# EAGLE library part RN4870 (library justinloundagin)
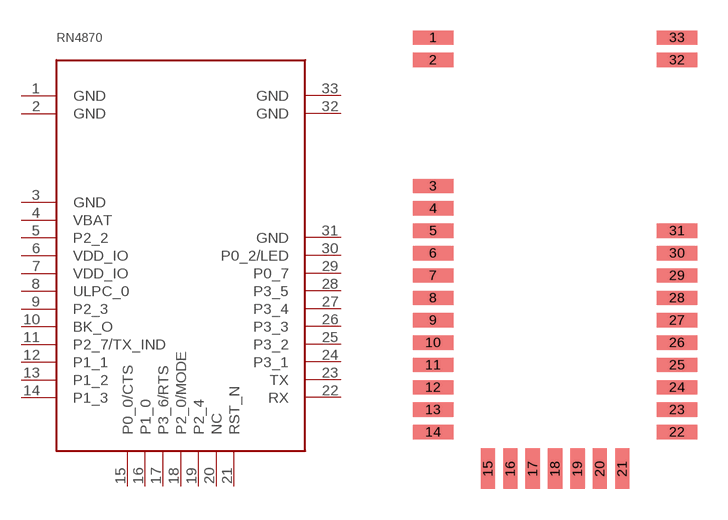
[diagram p3: symbol with the pads of RN4870; footprint RN4870]

Designator prefix -

## RN4870  [RN4870]
1  GND
2  GND
3  GND
4  VBAT
5  P2_2
6  VDD_IO
7  VDD_IO
8  ULPC_0
9  P2_3
10  BK_O
11  P2_7/TX_IND
12  P1_1
13  P1_2
14  P1_3
15  P0_0/CTS
16  P1_0
17  P3_6/RTS
18  P2_0/MODE
19  P2_4
20  NC
21  RST_N
22  RX
23  TX
24  P3_1
25  P3_2
26  P3_3
27  P3_4
28  P3_5
29  P0_7
30  P0_2/LED
31  GND
32  GND
33  GND

## Footprint RN4870 (pad centres in mm)
smd 2 x 0.7: 1 0,21.2; 2 0,20.1; 3 0,13.9; 4 0,12.8; 5 0,11.7; 6 0,10.6; 7 0,9.5; 8 0,8.4; 9 0,7.3; 10 0,6.2; 11 0,5.1; 12 0,4; 13 0,2.9; 14 0,1.8; 22 12,1.8; 23 12,2.9; 24 12,4; 25 12,5.1; 26 12,6.2; 27 12,7.3; 28 12,8.4; 29 12,9.5; 30 12,10.6; 31 12,11.7; 32 12,20.1; 33 12,21.2
smd 0.7 x 2: 15 2.7,0; 16 3.8,0; 17 4.9,0; 18 6,0; 19 7.1,0; 20 8.2,0; 21 9.3,0